# Altium schematic symbol library AP2152SG-13.SchLib: 1 symbol
Pins are listed as number, name and electrical type; pins without a type are passive.

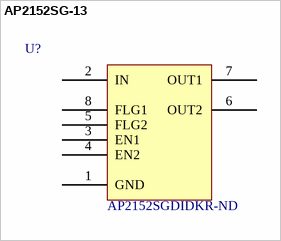
[diagram p0: symbol AP2152SG-13]

## AP2152SG-13
designator U?  Supplier Part Number 1: AP2152SGDIDKR-ND  (hidden comment: AP2152SG-13)
USB Power SW Hi Side Dual 5.5V 0.8A 8-Pin SO T/R; Manufacturer: Diodes; Number of Outputs: 2; Current Rating: 800mA; Min Supply Voltage: 2.7V; Interface: On/Off; Max Output Current: 500mA; On-State Resistance: 150mR; Supplier 1: Digikey; Manufacturer Part Number: AP2152SG-13; Stock 1: 7892; Pricing 1: 1=0.5, 10=0.426, 100=0.3182, 500=0.25, 1000=0.1932 (USD); Mount: Surface Mount; Case/Package: SO; Number of Pins: 8; Weight: 0.00261oz; Min Operating Temperature: -40°C; Max Operating Temperature: 85°C; Packaging: Tape and Reel; Package Quantity: 2500; Max Supply Voltage: 5.5V; Radiation Hardening: No; Lead Free: Lead Free; ComponentLink1URL: https://datasheet.ciiva.com/17226/ap2142-52-17226168.pdf; ComponentLink1Description: https://datasheet.ciiva.com/17226/ap2142-52-17226168.pdf; ComponentLink2URL: https://datasheet.ciiva.com/3234/ap2142-52-3234540.pdf; ComponentLink2Description: https://datasheet.ciiva.com/3234/ap2142-52-3234540.pdf; ComponentLink3URL: https://datasheet.ciiva.com/15108/getdatasheetpartid-687500-15108893.pdf; ComponentLink3Description: https://datasheet.ciiva.com/15108/getdatasheetpartid-687500-15108893.pdf; ComponentLink4URL: https://datasheet.ciiva.com/16415/ap2142-52-16415693.pdf; ComponentLink4Description: https://datasheet.ciiva.com/16415/ap2142-52-16415693.pdf; ComponentLink5URL: https://datasheet.ciiva.com/4924/ap2142-52-4924670.pdf; ComponentLink5Description: https://datasheet.ciiva.com/4924/ap2142-52-4924670.pdf
footprint SOP127P600X175-8N (SOP, 8-Leads, Body 4.90x3.90mm, Pitch 1.27mm, IPC Medium Density)
pins: 1 GND, 2 IN, 3 EN1, 4 EN2, 5 FLG2, 6 OUT2, 7 OUT1, 8 FLG1